# Altium footprint library EthIO_Gateway.PcbLib: 2 footprints
Each footprint in its own frame and in the unit in brackets; x right, y up, seen from the top. Pads: shape width x height; smd on the part's side, far side on the other; paste and mask are expansions set on the pad; w line width, h text height; cw(c..) or ccw(c..) is an arc to the next point about the centre after c.
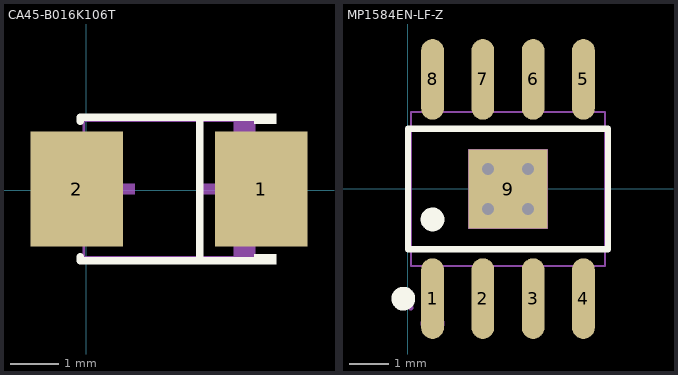
[diagram p0: the footprints below, top view; thin cyan lines are the x and y axes]

## CA45-B016K106T [mm]
pads (2):
  rect 1.9x2.376 smd: 1(3.604,0.028) 2(-0.193,0.028)
Top Overlay:
  region: 3.456,-1.524 3.456,-1.312 3.913,-1.312 3.913,-1.524
  region: 3.456,1.581 3.456,1.369 3.913,1.369 3.913,1.581
  lines w0.152: -0.121,-1.363 -0.121,-1.448 3.532,-1.448 ; -0.121,1.42 -0.121,1.505 3.532,1.505 ; 2.341,-1.448 2.341,1.505
Mechanical 2:
  region: 3.456,1.428 3.456,0.728 3.036,0.728 3.036,1.428
  region: 3.456,-1.372 3.456,-0.672 3.036,-0.672 3.036,-1.372
  region: 2.931,-0.672 2.931,0.728 2.721,0.728 2.721,-0.672
  region: 3.246,-0.077 3.246,0.133 2.406,0.133 2.406,-0.077
  region: 0.166,-0.077 0.166,0.133 1.006,0.133 1.006,-0.077
Mechanical 6:
  lines w0.051: -0.044,-1.372 3.456,-1.372 3.456,1.428 -0.044,1.428 -0.044,-1.372
Mechanical 8:
  region: 3.516,1.428 3.516,1.404 3.481,1.368 3.431,1.368 3.396,1.404 3.396,1.428 3.396,1.453 3.431,1.488 3.481,1.488 3.516,1.453 3.516,1.428
Mechanical 9:
  region: 3.456,-1.072 3.456,1.128 2.756,1.128 2.756,-1.072
  region: -0.044,-1.072 -0.044,1.128 0.656,1.128 0.656,-1.072
3D body "2.STEP": height 1.97, standoff -0.03, extent -0.199,-1.403 3.501,1.397

## MP1584EN-LF-Z [mm]
pads (9):
  oval 0.574x2.038 smd: 1(0.627,-2.777) 2(1.897,-2.777) 3(3.167,-2.777) 4(4.437,-2.777) 5(4.437,2.761) 6(3.167,2.761) 7(1.897,2.761) 8(0.627,2.761)
  rect 2x2 smd: 9(2.532,-0.008)
via 3.032,0.492 diameter 0.61 hole 0.305
via 2.032,0.492 diameter 0.61 hole 0.305
via 3.032,-0.508 diameter 0.61 hole 0.305
via 2.032,-0.508 diameter 0.61 hole 0.305
Top Overlay:
  circle w0.3: c0.627,-0.777 r0.15
  circle w0.3: c-0.113,-2.777 r0.15
  lines w0.152: 0.006,-1.529 0.006,1.514 5.058,1.514 5.058,-1.529 0.006,-1.529
Mechanical 2:
  circle w0.3: c0.627,-3.408 r0.15
Mechanical 6:
  lines w0.051: 0.082,-1.958 0.082,1.942 4.982,1.942 4.982,-1.958 0.082,-1.958
Mechanical 7:
  region: 0.422,-2.183 0.422,-1.948 0.832,-1.948 0.832,-2.183
  region: 1.692,-2.183 1.692,-1.948 2.102,-1.948 2.102,-2.183
  region: 2.962,-2.183 2.962,-1.948 3.372,-1.948 3.372,-2.183
  region: 4.232,-2.183 4.232,-1.948 4.642,-1.948 4.642,-2.183
  region: 0.422,2.167 0.422,1.932 0.832,1.932 0.832,2.167
  region: 1.692,2.167 1.692,1.932 2.102,1.932 2.102,2.167
  region: 2.962,2.167 2.962,1.932 3.372,1.932 3.372,2.167
  region: 4.232,2.167 4.232,1.932 4.642,1.932 4.642,2.167
Mechanical 8:
  region: 0.142,-3.008 0.142,-3.033 0.107,-3.068 0.057,-3.068 0.022,-3.033 0.022,-3.008 0.022,-2.983 0.057,-2.948 0.107,-2.948 0.142,-2.983
Mechanical 9:
  region: 0.422,-3.008 0.422,-2.173 0.832,-2.173 0.832,-3.008
  region: 1.692,-3.008 1.692,-2.173 2.102,-2.173 2.102,-3.008
  region: 2.962,-3.008 2.962,-2.173 3.372,-2.173 3.372,-3.008
  region: 4.232,-3.008 4.232,-2.173 4.642,-2.173 4.642,-3.008
  region: 0.422,2.992 0.422,2.157 0.832,2.157 0.832,2.992
  region: 1.692,2.992 1.692,2.157 2.102,2.157 2.102,2.992
  region: 2.962,2.992 2.962,2.157 3.372,2.157 3.372,2.992
  region: 4.232,2.992 4.232,2.157 4.642,2.157 4.642,2.992
  region: 1.532,-1.008 1.532,0.992 3.532,0.992 3.532,-1.008
3D body "2.STEP": height 1.67, standoff -0.03, extent 0.053,-3 4.953,3